# Altium footprint library CN_JST-B5B-XH.PcbLib: 1 footprints
Each footprint in its own frame and in the unit in brackets; x right, y up, seen from the top. Pads: shape width x height; smd on the part's side, far side on the other; paste and mask are expansions set on the pad; w line width, h text height; cw(c..) or ccw(c..) is an arc to the next point about the centre after c.
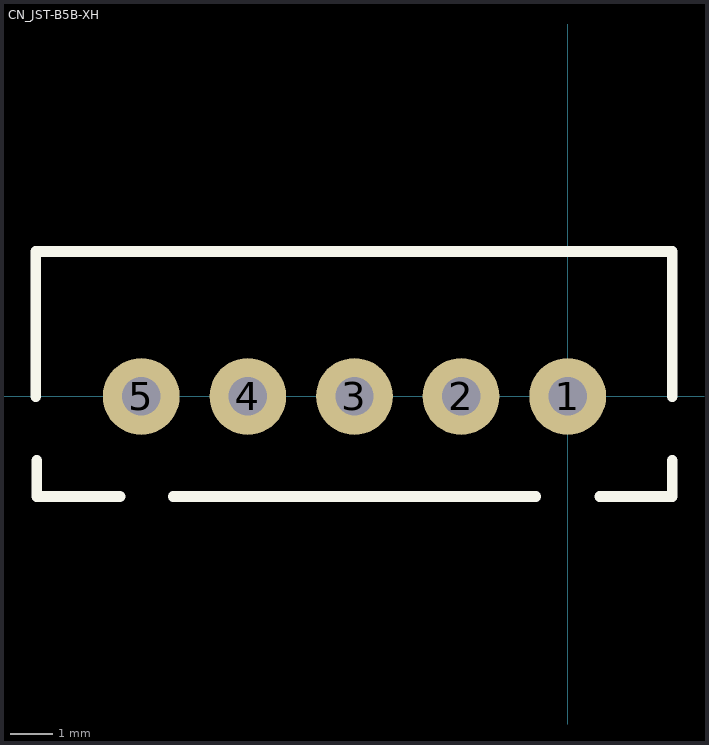
[diagram p0: the footprint, top view; thin cyan lines are the x and y axes]

## CN_JST-B5B-XH [mm] "JST 2.5mm disconnectable crimp connector"
pads (5):
  round 1.8 hole 0.9: 1(0,0) 2(-2.5,0) 3(-5,0) 4(-7.5,0) 5(-10,0)
Top Overlay:
  lines w0.254: -12.471,0 -12.471,3.4 0.6,3.4 2.45,3.4 2.45,0 ; -12.45,-1.5 -12.45,-2.35 -10.5,-2.35 ; -9.25,-2.35 -0.75,-2.35 ; 0.75,-2.35 2.45,-2.35 2.45,-1.5
3D body: height 7.02, standoff -3.38, extent -12.479,-2.346 2.421,3.404